# Altium footprint library RESC6331X70N.PcbLib: 1 footprints
Each footprint in its own frame and in the unit in brackets; x right, y up, seen from the top. Pads: shape width x height; smd on the part's side, far side on the other; paste and mask are expansions set on the pad; w line width, h text height; cw(c..) or ccw(c..) is an arc to the next point about the centre after c.
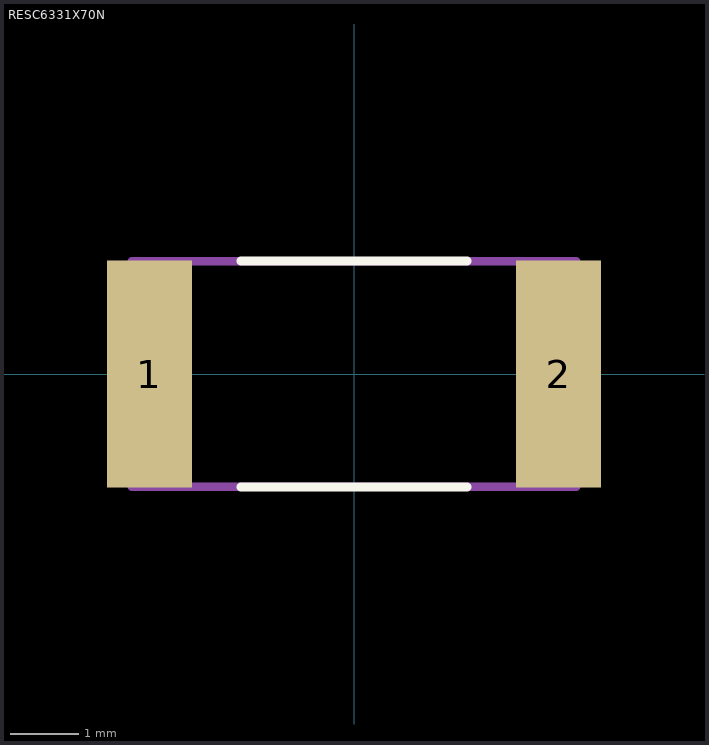
[diagram p0: the footprint, top view; thin cyan lines are the x and y axes]

## RESC6331X70N [mm]
pads (2):
  rect 1.24x3.32 smd: 1(-2.99,0) 2(2.99,0)
Top Overlay:
  lines w0.127: -1.651,-1.651 1.651,-1.651 ; -1.651,1.651 1.651,1.651
Mechanical 13:
  lines w0.127: -3.25,-1.65 3.25,-1.65 ; -3.25,1.65 3.25,1.65
3D body "CRCW25126R80FKEGHP.STEP": height 0.71, standoff 0.01, extent -3.15,-1.575 3.15,1.575